# EAGLE library part SAMD09_QFN24 (library Atmel-SAMD09)
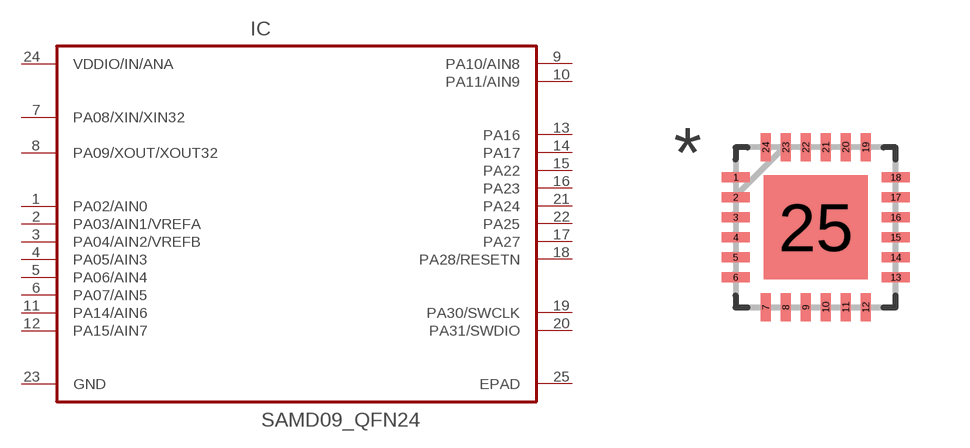
[diagram p0: symbol with the pads of QFN50P400X400X100-25N; footprint QFN50P400X400X100-25N]

Designator prefix IC

## SAMD09_QFN24  [QFN50P400X400X100-25N]
1  PA02/AIN0
2  PA03/AIN1/VREFA
3  PA04/AIN2/VREFB
4  PA05/AIN3
5  PA06/AIN4
6  PA07/AIN5
7  PA08/XIN/XIN32
8  PA09/XOUT/XOUT32
9  PA10/AIN8
10  PA11/AIN9
11  PA14/AIN6
12  PA15/AIN7
13  PA16
14  PA17
15  PA22
16  PA23
17  PA27
18  PA28/RESETN
19  PA30/SWCLK
20  PA31/SWDIO
21  PA24
22  PA25
23  GND  pwr
24  VDDIO/IN/ANA  pwr
25  EPAD  pas

## Footprint QFN50P400X400X100-25N (pad centres in mm)
smd 0.7 x 0.25: 1 -2,1.25; 2 -2,0.75; 3 -2,0.25; 4 -2,-0.25; 5 -2,-0.75; 6 -2,-1.25; 13 2,-1.25; 14 2,-0.75; 15 2,-0.25; 16 2,0.25; 17 2,0.75; 18 2,1.25
smd 0.25 x 0.7: 7 -1.25,-2; 8 -0.75,-2; 9 -0.25,-2; 10 0.25,-2; 11 0.75,-2; 12 1.25,-2; 19 1.25,2; 20 0.75,2; 21 0.25,2; 22 -0.25,2; 23 -0.75,2; 24 -1.25,2
smd 2.6 x 2.6: 25 0,0